# EAGLE library part 20 (library Connectors > Header)
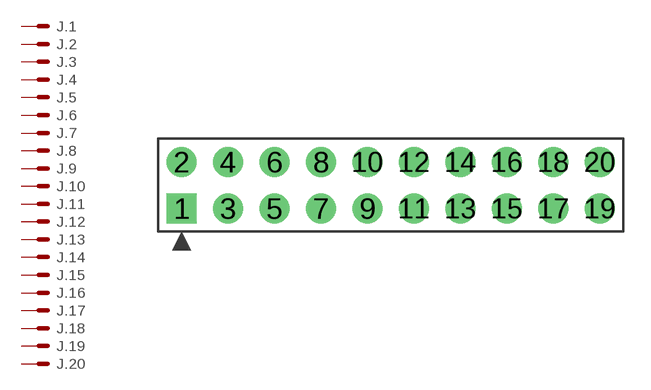
[diagram p4: symbol with the pads of 2X10_2.54; footprint 2X10_2.54]

Designator prefix J; gates .1=K .2=K .3=K .4=K .5=K .6=K .7=K .8=K .9=K .10=K .11=K .12=K .13=K .14=K .15=K .16=K .17=K .18=K .19=K .20=K

## 20  [2X10_2.54]
1  .1:S  pas
2  .2:S  pas
3  .3:S  pas
4  .4:S  pas
5  .5:S  pas
6  .6:S  pas
7  .7:S  pas
8  .8:S  pas
9  .9:S  pas
10  .10:S  pas
11  .11:S  pas
12  .12:S  pas
13  .13:S  pas
14  .14:S  pas
15  .15:S  pas
16  .16:S  pas
17  .17:S  pas
18  .18:S  pas
19  .19:S  pas
20  .20:S  pas

## Footprint 2X10_2.54 (pad centres in mm)
drill 1.1 square: 1 -11.43,-1.27
drill 1.1: 2 -11.43,1.27; 3 -8.89,-1.27; 4 -8.89,1.27; 5 -6.35,-1.27; 6 -6.35,1.27; 7 -3.81,-1.27; 8 -3.81,1.27; 9 -1.27,-1.27; 10 -1.27,1.27; 11 1.27,-1.27; 12 1.27,1.27; 13 3.81,-1.27; 14 3.81,1.27; 15 6.35,-1.27; 16 6.35,1.27; 17 8.89,-1.27; 18 8.89,1.27; 19 11.43,-1.27; 20 11.43,1.27